# Altium schematic symbol library contact.SchLib: 1 symbol
Pins are listed as number, name and electrical type; pins without a type are passive.

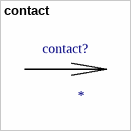
[diagram p0: symbol contact]

## contact
designator contact?
pins: 1